# EAGLE library part JUMPER (library DMFlib)
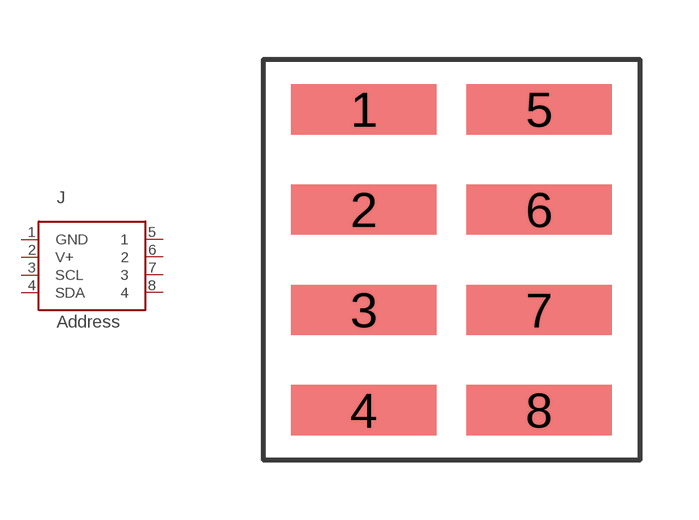
[diagram p4: symbol with the pads of JUMPER; footprint JUMPER]

Designator prefix J

## JUMPER  [JUMPER]
1  GND
2  V+
3  SCL
4  SDA
5  1
6  2
7  3
8  4

## Footprint JUMPER (pad centres in mm)
smd 3.68 x 1.27: 1 -1.905,3.81; 2 -1.905,1.27; 3 -1.905,-1.27; 4 -1.905,-3.81; 5 2.535,3.81; 6 2.535,1.27; 7 2.535,-1.27; 8 2.535,-3.81